# Altium footprint library MY.PcbLib: 177 footprints (part 2 of 12)
Each footprint in its own frame and in the unit in brackets; x right, y up, seen from the top. Pads: shape width x height; smd on the part's side, far side on the other; paste and mask are expansions set on the pad; w line width, h text height; cw(c..) or ccw(c..) is an arc to the next point about the centre after c.
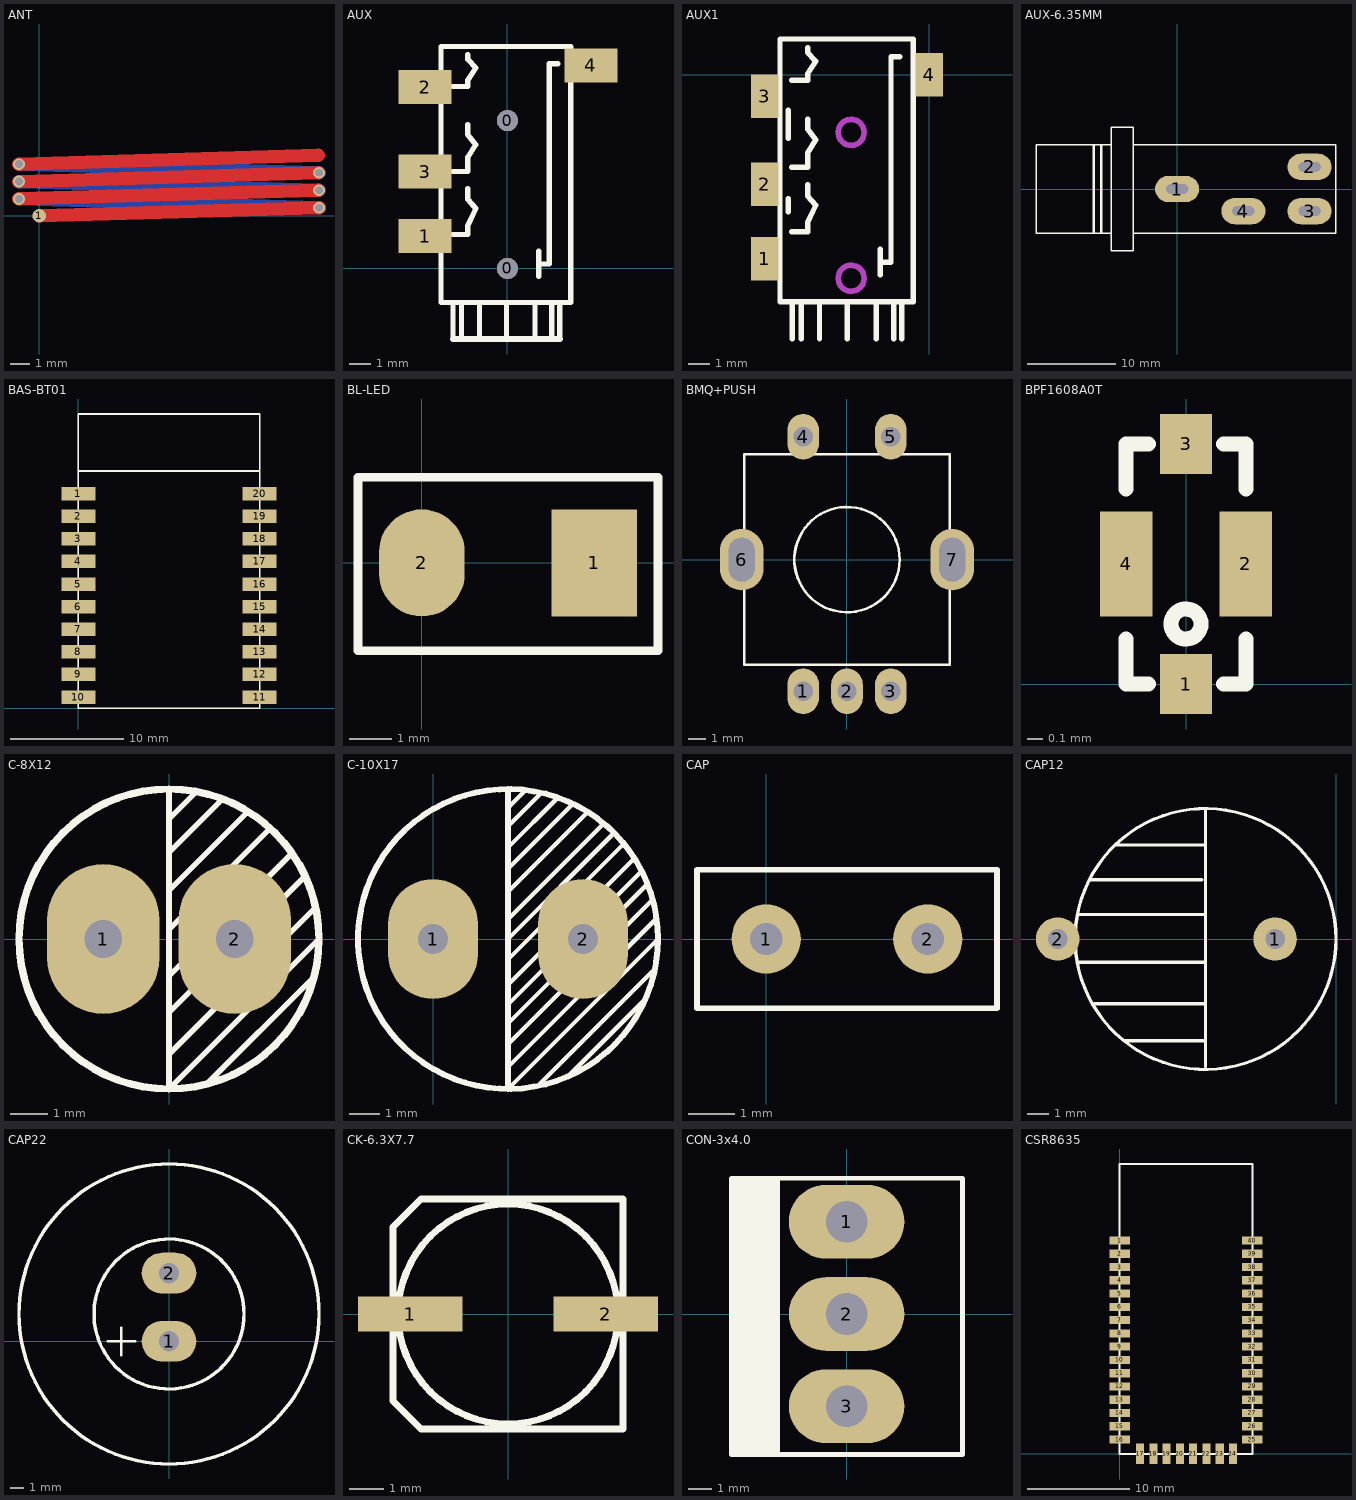
[diagram p1: the footprints below, top view; thin cyan lines are the x and y axes]

## ANT [mm]
pads (1):
  round 0.7 smd paste+0 mask+0: 1(0,0)
via -1.048,0.871 diameter 0.6 hole 0.4
via 14.452,0.421 diameter 0.6 hole 0.4
via -1.048,1.771 diameter 0.6 hole 0.4
via 14.452,1.321 diameter 0.6 hole 0.4
via -1.048,2.671 diameter 0.6 hole 0.4
via 14.452,2.221 diameter 0.6 hole 0.4
Top Layer:
  lines w0.7: -1.048,0.871 14.402,1.321 ; -1.048,1.771 14.402,2.221 ; -1.048,2.671 14.402,3.121 ; 0,0 14.452,0.421
Bottom Layer:
  lines w0.7: -0.998,0.871 14.452,0.421 ; -0.998,1.771 14.452,1.321 ; -0.998,2.671 14.452,2.221

## AUX [mm]
pads (6):
  round 1 hole 1 unplated: 0(0,0) 0(0,7)
  rect 2.5x1.6 smd: 1(-3.9,1.537) 2(-3.9,8.587) 3(-3.9,4.587) 4(3.95,9.612)
Top Overlay:
  lines w0.25: -2.6,1.612 -1.875,1.612 -1.875,2.037 -1.5,2.837 -1.875,3.262 -1.875,3.787 ; -2.6,4.587 -1.875,4.587 -1.875,5.262 -1.5,5.862 -1.875,6.337 -1.875,6.812 ; -2.6,8.612 -1.875,8.612 -1.875,8.912 -1.5,9.487 -1.875,9.887 -1.875,10.112 ; -2.575,-3.338 -2.575,-1.613 ; -2.175,-3.338 -2.175,-1.638 ; -1.325,-3.338 -1.325,-1.638 ; -0.05,-3.338 -0.05,-1.613 ; 1.3,-3.338 1.3,-1.613 ; 1.475,-0.363 1.475,0.812 ; 1.525,0.212 1.975,0.212 1.975,9.687 2.375,9.687 ; 2.1,-3.338 2.1,-1.613 ; 2.475,-3.338 2.475,-1.638 ; -3.15,-1.613 -3.15,10.512 3,10.512 3,-1.613 -3.15,-1.613
  lines w0.3: -2.575,-3.338 2.475,-3.338

## AUX1 [mm]
pads (4):
  rect 1.27x2 smd: 1(-7.611,-8.5) 2(-7.611,-5.05) 3(-7.611,-1) 4(0,0)
Top Overlay:
  lines w0.25: -6.349,-7.25 -5.624,-7.25 -5.624,-6.825 -5.249,-6.025 -5.624,-5.6 -5.624,-5.075 ; -6.349,-4.275 -5.624,-4.275 -5.624,-3.6 -5.249,-3 -5.624,-2.525 -5.624,-2.05 ; -6.349,-0.25 -5.624,-0.25 -5.624,0.05 -5.249,0.625 -5.624,1.025 -5.624,1.25 ; -6.324,-12.2 -6.324,-10.475 ; -5.924,-12.2 -5.924,-10.5 ; -5.074,-12.2 -5.074,-10.5 ; -3.799,-12.2 -3.799,-10.475 ; -2.449,-12.2 -2.449,-10.475 ; -2.274,-9.225 -2.274,-8.05 ; -2.224,-8.65 -1.774,-8.65 -1.774,0.825 -1.374,0.825 ; -1.649,-12.2 -1.649,-10.475 ; -1.274,-12.2 -1.274,-10.5 ; -6.899,-10.475 -6.899,1.65 -0.749,1.65 -0.749,-10.475 -6.899,-10.475
  lines w0.254: -6.511,-6.33 -6.511,-5.73 ; -6.511,-2.93 -6.511,-1.63
Keep-Out Layer:
  circle w0.254: c-3.612,-2.663 r0.6
  circle w0.254: c-3.612,-9.394 r0.6
Mechanical 1:
  circle w0.254: c-3.612,-9.394 r0.6
  circle w0.254: c-3.612,-2.663 r0.6

## AUX-6.35MM [mm]
pads (4):
  oval 5x3 hole 1.1 slot 2.5 at 0 deg mask+0.003: 1(0,0) 2(15,2.5) 3(15,-2.5) 4(7.5,-2.5)
Top Overlay:
  lines w0.15: -7.5,-5 -16,-5 -16,5 -7.5,5 ; -5,-5 18,-5 18,5 -5,5 ; -7.5,-7 -7.5,7 -5,7 -5,-7 -7.5,-7
  lines w0.3: -9.474,-4.902 -9.474,4.928 ; -8.611,-4.902 -8.611,4.928

## BAS-BT01 [mm]
pads (20):
  rect 3x1.2 smd: 1(0,19) 2(0,17) 3(0,15) 4(0,13) 5(0,11) 6(0,9) 7(0,7) 8(0,5) 9(0,3) 10(0,1) 11(16.05,1) 12(16.05,3) 13(16.05,5) 14(16.05,7) 15(16.05,9) 16(16.05,11) 17(16.05,13) 18(16.05,15) 19(16.05,17) 20(16.05,19)
Top Overlay:
  lines w0.15: 0,21 16.05,21 ; 0,0 16.05,0 16.05,26.05 0,26.05 0,0

## BL-LED [mm]
pads (2):
  rect 2x2.5 smd: 1(4.02,0)
  oval 2x2.5 smd: 2(0,0)
Top Overlay:
  lines w0.2: -1.49,-2.05 -1.49,2 5.51,2 5.51,-2.05 -1.49,-2.05

## BMQ+PUSH [mm]
pads (7):
  oval 1.8x2.6 hole 1.1: 1(-2.5,-7.5) 2(0,-7.5) 3(2.5,-7.5) 4(-2.5,7) 5(2.5,7)
  oval 2.5x3.5 hole 1.5 slot 2.5 at 90 deg: 6(-6,0) 7(6,0)
Top Overlay:
  circle w0.15: c0,0 r3
  lines w0.15: -5.85,-6 5.85,-6 5.85,6 -5.85,6 -5.85,-6

## BPF1608A0T [mm]
pads (4):
  rect 0.35x0.4 smd: 1(0,0) 3(0,1.6)
  rect 0.35x0.7 smd: 2(0.4,0.8) 4(-0.4,0.8)
Top Overlay:
  circle w0.1: c0,0.4 r0.1
  lines w0.1: -0.4,0.3 -0.4,0 -0.25,0 ; -0.4,1.3 -0.4,1.6 -0.25,1.6 ; 0.25,0 0.4,0 0.4,0.3 ; 0.25,1.6 0.4,1.6 0.4,1.3

## C-8X12 [mm]
pads (2):
  oval 3x4 hole 1: 1(-1.75,0) 2(1.75,0)
Top Overlay:
  circle w0.2: c0,0 r4
  lines w0.15: 0,-3.073 3.912,0.838 ; 0,-1.956 3.607,1.651 3.607,1.676 ; 0,-0.991 3.277,2.286 3.277,2.311 ; 0,0.254 2.692,2.946 ; 0,1.295 2.108,3.404 2.134,3.404 ; 0,2.311 1.422,3.734 1.448,3.734 ; 0,3.2 0.711,3.912 ; 0,4 0,-4 4,0 ; 0.991,-3.886 3.835,-1.041 3.835,-1.016

## C-10X17 [mm]
pads (2):
  oval 3x4 hole 1: 1(0,0) 2(5,0)
Top Overlay:
  circle w0.2: c2.5,0 r5
  lines w0.15: 2.5,-5 7.5,0 ; 2.5,-4.267 7.428,0.66 7.453,0.66 ; 2.5,-3.505 7.301,1.295 ; 2.5,-2.819 7.123,1.803 7.148,1.803 ; 2.5,-2.184 6.92,2.235 6.92,2.261 ; 2.5,-1.524 6.666,2.642 6.716,2.642 ; 2.5,-0.686 6.335,3.15 6.335,3.2 ; 2.5,0 6.005,3.505 6.005,3.556 ; 2.5,0.66 5.675,3.835 5.7,3.835 ; 2.5,1.575 5.142,4.216 ; 2.5,2.337 4.634,4.47 4.684,4.47 ; 2.5,3.048 4.176,4.724 ; 2.5,3.759 3.618,4.877 ; 2.551,4.42 3.084,4.953 ; 3.465,-4.928 7.326,-1.067 7.377,-1.067 ; 4.557,-4.521 7.021,-2.057
  lines w0.2: 2.5,-5 2.5,5

## CAP [mm]
pads (2):
  round 1.5 hole 0.7: 1(0,0) 2(3.5,0)
Top Overlay:
  lines w0.127: -1.5,-1.5 -1.5,1.5 5,1.5 5,-1.5 -1.5,-1.5

## CAP12 [mm]
pads (2):
  round 2 hole 0.9: 1(-2.8,0) 2(-12.8,0)
Top Overlay:
  circle w0.15: c-6,0 r6
  lines w0.15: -11.9,-1.075 -6,-1.075 ; -11.8,1.125 -6,1.125 ; -11.276,2.725 -6.176,2.725 ; -11.1,-2.975 -6.1,-2.975 ; -10.084,4.325 -6.1,4.325 ; -9.703,-4.675 -6.1,-4.675 ; -6,-5.875 -6,5.925

## CAP22 [mm]
pads (2):
  oval 4x3 hole 1.5: 1(0,0) 2(0,5)
Top Overlay:
  circle w0.254: c0,2 r11
  circle w0.254: c0,2 r5.5
  lines w0.2: -4.5,0 -2.5,0 ; -3.5,-1 -3.5,1

## CK-6.3X7.7 [mm]
pads (2):
  rect 3x1 smd: 1(-2.8,0) 2(2.8,0)
Top Overlay:
  circle w0.2: c0,0 r3.15
  lines w0.2: -3.3,-2.5 -3.3,2.5 -2.5,3.3 3.3,3.3 3.3,-3.3 -2.5,-3.3 -3.3,-2.5

## CON-3x4.0 [mm]
pads (3):
  oval 5x3.2 hole 1.8: 1(0,4) 2(0,0) 3(0,-4)
Top Overlay:
  rectangle: -4.987,-6.09 -2.987,5.878
  lines w0.2: -2.987,-6.09 -2.987,5.878 ; -4.987,-6.09 5.021,-6.09 5.021,5.878 -4.987,5.878 -4.987,-6.09

## CSR8635 [mm]
pads (40):
  rect 2x0.8 smd: 1(0,20.9) 2(0,19.6) 3(0,18.3) 4(0,17) 5(0,15.7) 6(0,14.4) 7(0,13.1) 8(0,11.8) 9(0,10.5) 10(0,9.2) 11(0,7.9) 12(0,6.6) 13(0,5.3) 14(0,4) 15(0,2.7) 16(0,1.4) 25(13,1.4) 26(13,2.7) 27(13,4) 28(13,5.3) 29(13,6.6) 30(13,7.9) 31(13,9.2) 32(13,10.5) 33(13,11.8) 34(13,13.1) 35(13,14.4) 36(13,15.7) 37(13,17) 38(13,18.3) 39(13,19.6) 40(13,20.9)
  rect 0.8x2 smd: 17(2,0) 18(3.3,0) 19(4.6,0) 20(5.9,0) 21(7.2,0) 22(8.5,0) 23(9.8,0) 24(11.1,0)
Top Overlay:
  lines w0.2: 0,0 0,28.4 13,28.4 13,0 0,0